# Altium schematic symbol library Schlib1.SchLib: 2 symbols
Pins are listed as number, name and electrical type; pins without a type are passive.

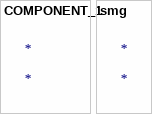
[diagram p0: symbols COMPONENT_1 to smg]

## COMPONENT_1
designator *

## smg
designator *